# Altium schematic symbol library M2.SchLib: 5 symbols
Pins are listed as number, name and electrical type; pins without a type are passive.

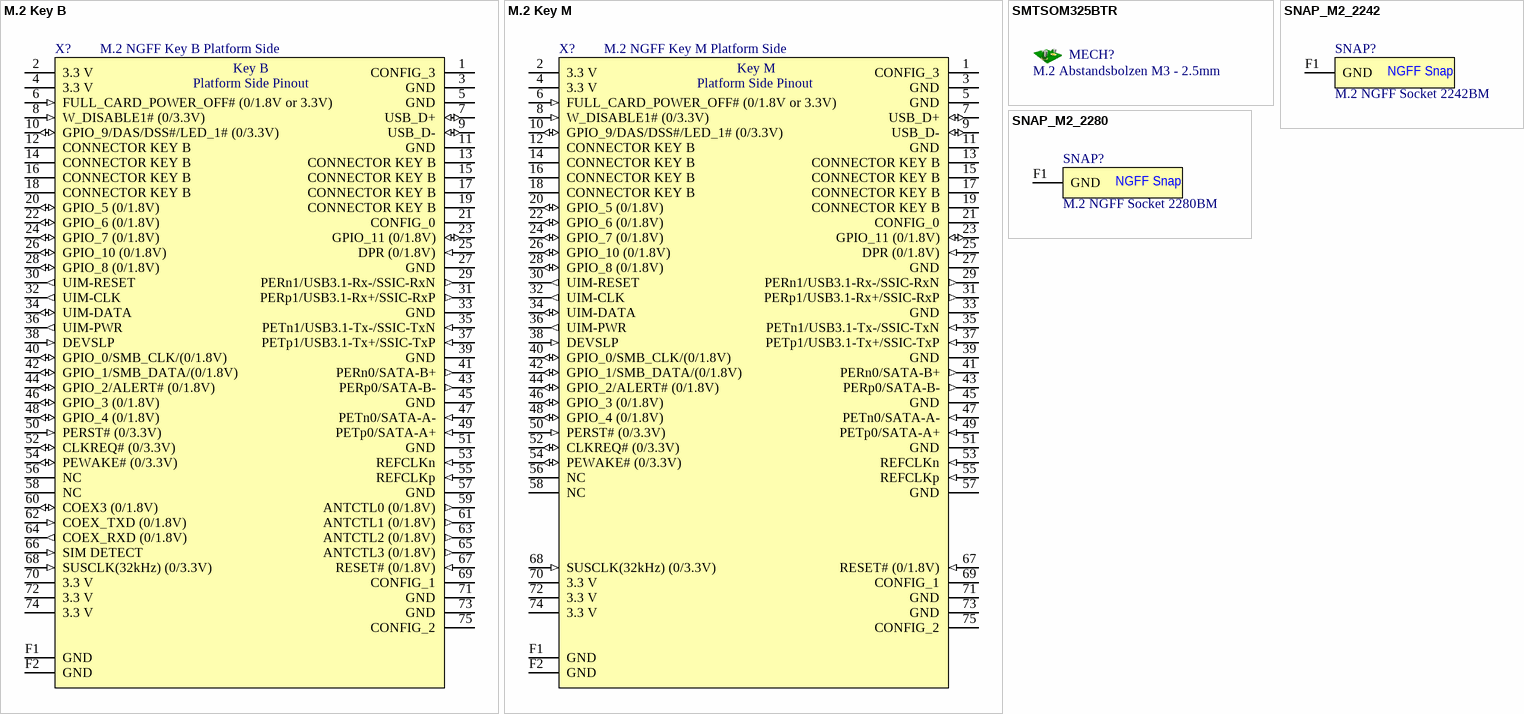
[diagram p0: symbols M.2 Key B to SNAP_M2_2280]

## M.2 Key B
designator X?, comment M.2 NGFF Key B Platform Side
pins: 1 CONFIG_3, 2 3.3 V (power), 3 GND (power), 4 3.3 V (power), 5 GND (power), 6 FULL_CARD_POWER_OFF# (0/1.8V or 3.3V) (in), 7 USB_D+ (io), 8 W_DISABLE1# (0/3.3V) (in), 9 USB_D- (io), 10 GPIO_9/DAS/DSS#/LED_1# (0/3.3V) (io), 11 GND (power), 12 CONNECTOR KEY B, 13 CONNECTOR KEY B, 14 CONNECTOR KEY B, 15 CONNECTOR KEY B, 16 CONNECTOR KEY B, 17 CONNECTOR KEY B, 18 CONNECTOR KEY B, 19 CONNECTOR KEY B, 20 GPIO_5 (0/1.8V) (io), 21 CONFIG_0, 22 GPIO_6 (0/1.8V) (io), 23 GPIO_11 (0/1.8V) (io), 24 GPIO_7 (0/1.8V) (io), 25 DPR (0/1.8V) (in), 26 GPIO_10 (0/1.8V) (io), 27 GND (power), 28 GPIO_8 (0/1.8V) (io), 29 PERn1/USB3.1-Rx-/SSIC-RxN (out), 30 UIM-RESET (out), 31 PERp1/USB3.1-Rx+/SSIC-RxP (out), 32 UIM-CLK (out), 33 GND (power), 34 UIM-DATA (io), 35 PETn1/USB3.1-Tx-/SSIC-TxN (in), 36 UIM-PWR (out), 37 PETp1/USB3.1-Tx+/SSIC-TxP (in), 38 DEVSLP (in), 39 GND (power), 40 GPIO_0/SMB_CLK/(0/1.8V) (io), 41 PERn0/SATA-B+ (out), 42 GPIO_1/SMB_DATA/(0/1.8V) (io), 43 PERp0/SATA-B- (out), 44 GPIO_2/ALERT# (0/1.8V) (io), 45 GND (power), 46 GPIO_3 (0/1.8V) (io), 47 PETn0/SATA-A- (in), 48 GPIO_4 (0/1.8V) (io), 49 PETp0/SATA-A+ (in), 50 PERST# (0/3.3V) (in), 51 GND (power), 52 CLKREQ# (0/3.3V) (io), 53 REFCLKn (in), 54 PEWAKE# (0/3.3V) (io), 55 REFCLKp (in), 56 NC, 57 GND (power), 58 NC, 59 ANTCTL0 (0/1.8V) (out), 60 COEX3 (0/1.8V) (io), 61 ANTCTL1 (0/1.8V) (out), 62 COEX_TXD (0/1.8V) (in), 63 ANTCTL2 (0/1.8V) (out), 64 COEX_RXD (0/1.8V) (out), 65 ANTCTL3 (0/1.8V) (out), 66 SIM DETECT (in), 67 RESET# (0/1.8V) (in), 68 SUSCLK(32kHz) (0/3.3V) (in), 69 CONFIG_1, 70 3.3 V (power), 71 GND (power), 72 3.3 V (power), 73 GND (power), 74 3.3 V (power), 75 CONFIG_2, F1 GND (power), F2 GND (power)
text: Key B; Platform Side Pinout

## M.2 Key M
designator X?, comment M.2 NGFF Key M Platform Side
pins: 1 CONFIG_3, 2 3.3 V (power), 3 GND (power), 4 3.3 V (power), 5 GND (power), 6 FULL_CARD_POWER_OFF# (0/1.8V or 3.3V) (in), 7 USB_D+ (io), 8 W_DISABLE1# (0/3.3V) (in), 9 USB_D- (io), 10 GPIO_9/DAS/DSS#/LED_1# (0/3.3V) (io), 11 GND (power), 12 CONNECTOR KEY B, 13 CONNECTOR KEY B, 14 CONNECTOR KEY B, 15 CONNECTOR KEY B, 16 CONNECTOR KEY B, 17 CONNECTOR KEY B, 18 CONNECTOR KEY B, 19 CONNECTOR KEY B, 20 GPIO_5 (0/1.8V) (io), 21 CONFIG_0, 22 GPIO_6 (0/1.8V) (io), 23 GPIO_11 (0/1.8V) (io), 24 GPIO_7 (0/1.8V) (io), 25 DPR (0/1.8V) (in), 26 GPIO_10 (0/1.8V) (io), 27 GND (power), 28 GPIO_8 (0/1.8V) (io), 29 PERn1/USB3.1-Rx-/SSIC-RxN (out), 30 UIM-RESET (out), 31 PERp1/USB3.1-Rx+/SSIC-RxP (out), 32 UIM-CLK (out), 33 GND (power), 34 UIM-DATA (io), 35 PETn1/USB3.1-Tx-/SSIC-TxN (in), 36 UIM-PWR (out), 37 PETp1/USB3.1-Tx+/SSIC-TxP (in), 38 DEVSLP (in), 39 GND (power), 40 GPIO_0/SMB_CLK/(0/1.8V) (io), 41 PERn0/SATA-B+ (out), 42 GPIO_1/SMB_DATA/(0/1.8V) (io), 43 PERp0/SATA-B- (out), 44 GPIO_2/ALERT# (0/1.8V) (io), 45 GND (power), 46 GPIO_3 (0/1.8V) (io), 47 PETn0/SATA-A- (in), 48 GPIO_4 (0/1.8V) (io), 49 PETp0/SATA-A+ (in), 50 PERST# (0/3.3V) (in), 51 GND (power), 52 CLKREQ# (0/3.3V) (io), 53 REFCLKn (in), 54 PEWAKE# (0/3.3V) (io), 55 REFCLKp (in), 56 NC, 57 GND (power), 58 NC, 67 RESET# (0/1.8V) (in), 68 SUSCLK(32kHz) (0/3.3V) (in), 69 CONFIG_1, 70 3.3 V (power), 71 GND (power), 72 3.3 V (power), 73 GND (power), 74 3.3 V (power), 75 CONFIG_2, F1 GND (power), F2 GND (power)
text: Key M; Platform Side Pinout

## SMTSOM325BTR
designator MECH?, comment M.2 Abstandsbolzen M3 - 2.5mm
M.2 NGFF SMD-Abstandsbolzen - M3 - 2.5 mm; AN: 32101; Mixed: THT; H-ART: 9774025360; Temperature-Range: -55/+150 (Abs); Extra: WA-SMSI; HelpURL: B:\AD\adlib\datasheet\WE_9774025360; LCSC Part #: C5301784
footprint WA-SMSI-2.5mm

## SNAP_M2_2242
designator SNAP?, comment M.2 NGFF Socket 2242BM  (no BOM)
M.2 NGFF Socket 2242BM Snap; AN: 26334; Mixed: SMT; Extra: Variant of 25485; HelpURL: B:\AD\adlib\datasheet\1-2199119-0
footprint M.2-NGFF-Socket-2242BM
pins: F1 GND
text: NGFF Snap

## SNAP_M2_2280
designator SNAP?, comment M.2 NGFF Socket 2280BM  (no BOM)
M.2 NGFF Socket 2280BM Snap; AN: 26274; Mixed: SMT; Extra: Variant of 25485; HelpURL: B:\AD\adlib\datasheet\1-2199119-0
footprint M.2-NGFF-Socket-2280BM
pins: F1 GND
text: NGFF Snap